# EAGLE library part AD8221 (library EricB_custom)
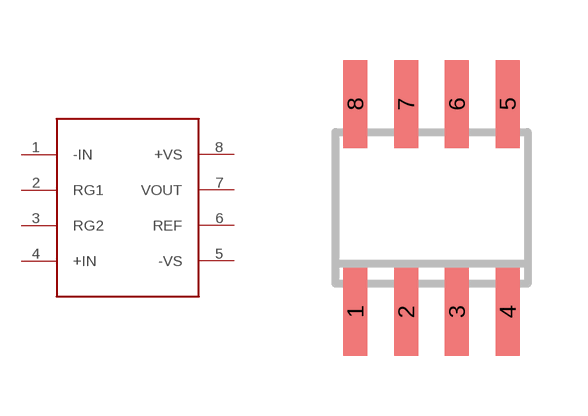
[diagram p11: symbol with the pads of SO8; footprint SO8]

Designator prefix -

## AD8221  [SO8]
1  -IN
2  RG1
3  RG2
4  +IN
5  -VS
6  REF
7  VOUT
8  +VS

## Footprint SO8 (pad centres in mm)
8-Lead Small Outline IC (SO-8) Source: http://www.analog.com/UploadedFiles/Data_Sheets/703465986AD8611_2_0.pdf
smd 0.6 x 2.2: 1 -1.905,-2.6; 2 -0.635,-2.6; 3 0.635,-2.6; 4 1.905,-2.6; 5 1.905,2.6; 6 0.635,2.6; 7 -0.635,2.6; 8 -1.905,2.6